# Altium footprint library SAMTEC_QTH-030-02-F-D-A.PcbLib: 1 footprints
Each footprint in its own frame and in the unit in brackets; x right, y up, seen from the top. Pads: shape width x height; smd on the part's side, far side on the other; paste and mask are expansions set on the pad; w line width, h text height; cw(c..) or ccw(c..) is an arc to the next point about the centre after c.
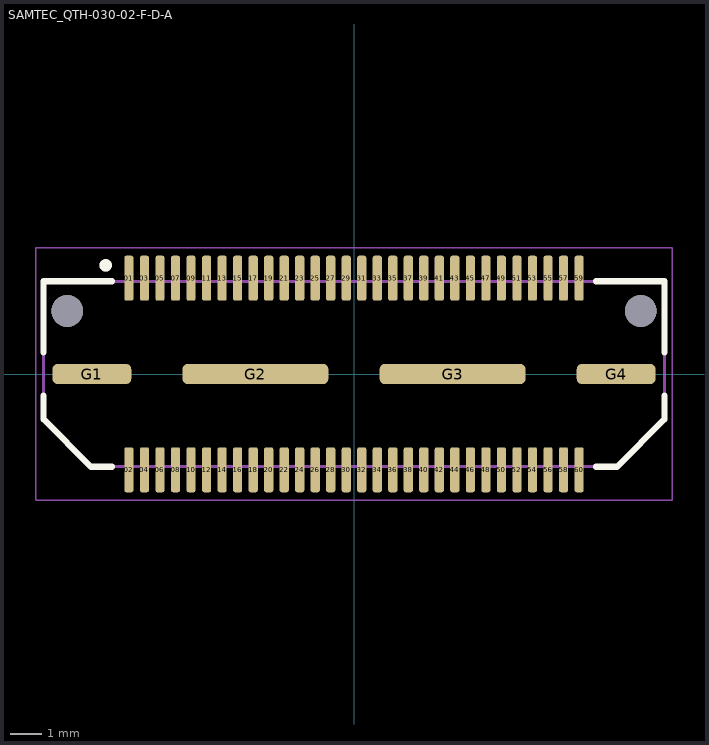
[diagram p0: the footprint, top view; thin cyan lines are the x and y axes]

## SAMTEC_QTH-030-02-F-D-A [mm]
pads (66):
  rrect50% 0.3x1.45 smd: 01(-7.25,3.086) 02(-7.25,-3.086) 03(-6.75,3.086) 04(-6.75,-3.086) 05(-6.25,3.086) 06(-6.25,-3.086) 07(-5.75,3.086) 08(-5.75,-3.086) 09(-5.25,3.086) 10(-5.25,-3.086) 11(-4.75,3.086) 12(-4.75,-3.086) 13(-4.25,3.086) 14(-4.25,-3.086) 15(-3.75,3.086) 16(-3.75,-3.086) 17(-3.25,3.086) 18(-3.25,-3.086) 19(-2.75,3.086) 20(-2.75,-3.086) 21(-2.25,3.086) 22(-2.25,-3.086) 23(-1.75,3.086) 24(-1.75,-3.086) 25(-1.25,3.086) 26(-1.25,-3.086) 27(-0.75,3.086) 28(-0.75,-3.086) 29(-0.25,3.086) 30(-0.25,-3.086) 31(0.25,3.086) 32(0.25,-3.086) 33(0.75,3.086) 34(0.75,-3.086) 35(1.25,3.086) 36(1.25,-3.086) 37(1.75,3.086) 38(1.75,-3.086) 39(2.25,3.086) 40(2.25,-3.086) 41(2.75,3.086) 42(2.75,-3.086) 43(3.25,3.086) 44(3.25,-3.086) 45(3.75,3.086) 46(3.75,-3.086) 47(4.25,3.086) 48(4.25,-3.086) 49(4.75,3.086) 50(4.75,-3.086) 51(5.25,3.086) 52(5.25,-3.086) 53(5.75,3.086) 54(5.75,-3.086) 55(6.25,3.086) 56(6.25,-3.086) 57(6.75,3.086) 58(6.75,-3.086) 59(7.25,3.086) 60(7.25,-3.086)
  rrect50% 2.54x0.64 smd: G1(-8.445,0) G4(8.445,0)
  rrect50% 4.7x0.64 smd: G2(-3.175,0) G3(3.175,0)
  round 1.02 hole 1.02 unplated: ""(-9.24,2.03) ""(9.24,2.03)
Top Overlay:
  circle w0.2: c-8,3.5 r0.1
  lines w0.2: -10,-0.7 -10,-1.461 -8.476,-2.985 -7.8,-2.985 ; -10,0.7 -10,2.985 -7.8,2.985 ; 7.8,-2.985 8.476,-2.985 10,-1.461 10,-0.7 ; 7.8,2.985 10,2.985 10,0.7
Mechanical 13:
  circle w0.2: c-8,3.5 r0.1
  lines w0.1: -10,-1.461 -10,2.985 10,2.985 10,-1.461 8.476,-2.985 -8.476,-2.985 -10,-1.461
Mechanical 15:
  lines w0.05: -10.25,-4.065 -10.25,4.065 10.25,4.065 10.25,-4.065 -10.25,-4.065
3D body: height 7.26, standoff -0.77, extent -10.001,-3.556 10.001,3.556